# Altium footprint library CAP318.PcbLib: 1 footprints
Each footprint in its own frame and in the unit in brackets; x right, y up, seen from the top. Pads: shape width x height; smd on the part's side, far side on the other; paste and mask are expansions set on the pad; w line width, h text height; cw(c..) or ccw(c..) is an arc to the next point about the centre after c.
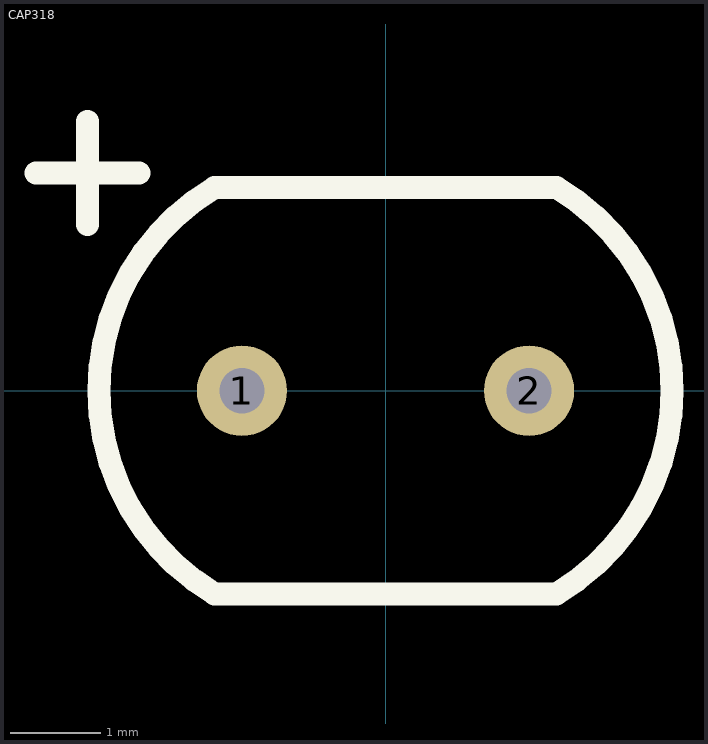
[diagram p0: the footprint, top view; thin cyan lines are the x and y axes]

## CAP318 [mm]
pads (2):
  round 1 hole 0.5: 1(-1.59,0) 2(1.59,0)
Top Overlay:
  lines w0.254: -3.873,2.413 -2.73,2.413 ; -3.302,1.841 -3.302,2.984 ; -1.892,-2.25 cw(c-0.561,0) -1.892,2.25 1.892,2.25 cw(c0.561,0) 1.892,-2.25 -1.892,-2.25